# EAGLE library part 634008138121 (library WR-MJ)
WR-MJ Cat 3 Modular Jacks – SMT Characteristics Shieldingless and Shielded with EMI-Spring option Optional LEDs in various sequences Vertical and Horizontal orientation Tape & Reel packaging for pick-and-place assembly Properties PoE++ Compatible up to 100W (IEEE 802.3bt) UL and cULus-Certified UL94-V0 reflow-compatible insulator material Ethernet Category 3 – Category 5 under conditions Applications Networks Internet of Things Smart Buildings <https://www.we-online.com/components/media/o60696v209%20Multi-WR-MJSM-634008149821.jpg> Details see: www.we-online.com/en/components/products/WR_MJ_MODULAR_JACKS_SMT <www.we-online.com/catalog/WR_MJ_MODULAR_JACKS_SMT/?utm_source=eagle_model&utm_medium=description_link&utm_campaign=eisos_eagle> Updated by Yingchun Shan 2020-01-03 2020(C) Würth Elektronik
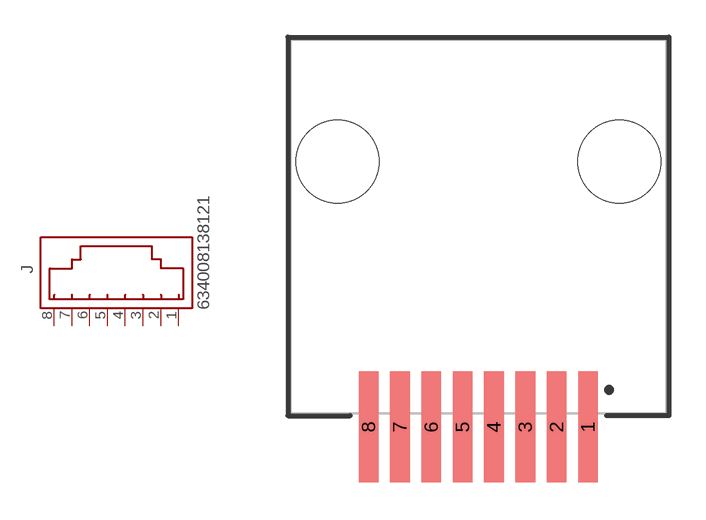
[diagram p13: symbol with the pads of 634008138121; footprint 634008138121]

Designator prefix J

## 634008138121 (APPLICATION-SYSTEM: CAT 3; DATASHEET-URL: https://www.we-online.com/redexpert/spec/634008138121?ae; EMI: No; LED: /; MOUNT: SMT; PART-NUMBER: 634008138121; SIZE: Vertical; VALUE: 634008138121; XPXC: 8P8C)  [634008138121]
1  1  pas
2  2  pas
3  3  pas
4  4  pas
5  5  pas
6  6  pas
7  7  pas
8  8  pas

## Footprint 634008138121 (pad centres in mm)
WR-MJ Modular Jack SMT Vertical Plastic 8P8C ,8 pins
smd 0.8 x 4.5: 1 4.445,-8.135; 2 3.175,-8.135; 3 1.905,-8.135; 4 0.635,-8.135; 5 -0.635,-8.135; 6 -1.905,-8.135; 7 -3.175,-8.135; 8 -4.445,-8.135
hole 3.35 at 5.715,2.615
hole 3.35 at -5.715,2.615